# EAGLE library part DG407 (library ic)
DG407: Dual 8-channel analog multiplexer (Maxim) ±15V, 100Ω
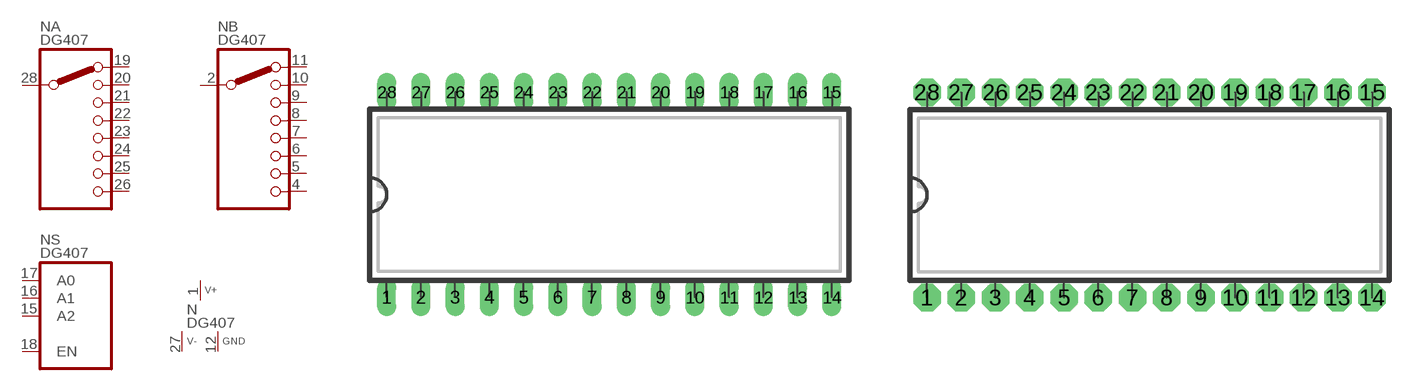
[diagram p103: symbol with the pads of DIP28WL; footprints DIP28WL, DIP28WN]

Designator prefix N; gates A=SD1X8_2 B=SD1X8_2 S=SD1X8_SEL P=V+-GND

## DG407L  [DIP28WL]
1  P:V+  pwr
2  B:S1
4  B:S2H
5  B:S2G
6  B:S2F
7  B:S2E
8  B:S2D
9  B:S2C
10  B:S2B
11  B:S2A
12  P:GND  pwr
15  S:A2  in
16  S:A1  in
17  S:A0  in
18  S:EN  in
19  A:S2A
20  A:S2B
21  A:S2C
22  A:S2D
23  A:S2E
24  A:S2F
25  A:S2G
26  A:S2H
27  P:V-  pwr
28  A:S1

## DG407N  [DIP28WN]
Pads as for DIP28WL

## DG407R  [DIP28WR]
Pads as for DIP28WL

## DG407  [DIP28WL]
Pads as for DIP28WL

## Footprint DIP28WL (pad centres in mm)
DIP-28, long pads Standard IC package, 28 pins
drill 0.813 pad 1.397 long: 1 -16.51,-7.62; 2 -13.97,-7.62; 3 -11.43,-7.62; 4 -8.89,-7.62; 5 -6.35,-7.62; 6 -3.81,-7.62; 7 -1.27,-7.62; 8 1.27,-7.62; 9 3.81,-7.62; 10 6.35,-7.62; 11 8.89,-7.62; 12 11.43,-7.62; 13 13.97,-7.62; 14 16.51,-7.62; 15 16.51,7.62; 16 13.97,7.62; 17 11.43,7.62; 18 8.89,7.62; 19 6.35,7.62; 20 3.81,7.62; 21 1.27,7.62; 22 -1.27,7.62; 23 -3.81,7.62; 24 -6.35,7.62; 25 -8.89,7.62; 26 -11.43,7.62; 27 -13.97,7.62; 28 -16.51,7.62

## Footprint DIP28WN (pad centres in mm)
DIP-28 Standard IC package, 28 pins
drill 0.813 pad 2.032 octagon: 1 -16.51,-7.62; 2 -13.97,-7.62; 3 -11.43,-7.62; 4 -8.89,-7.62; 5 -6.35,-7.62; 6 -3.81,-7.62; 7 -1.27,-7.62; 8 1.27,-7.62; 9 3.81,-7.62; 10 6.35,-7.62; 11 8.89,-7.62; 12 11.43,-7.62; 13 13.97,-7.62; 14 16.51,-7.62; 15 16.51,7.62; 16 13.97,7.62; 17 11.43,7.62; 18 8.89,7.62; 19 6.35,7.62; 20 3.81,7.62; 21 1.27,7.62; 22 -1.27,7.62; 23 -3.81,7.62; 24 -6.35,7.62; 25 -8.89,7.62; 26 -11.43,7.62; 27 -13.97,7.62; 28 -16.51,7.62

## Footprint DIP28WR (pad centres in mm)
DIP-28, reduced pads Standard IC package, 28 pins
drill 0.813 pad 1.397 square: 1 -16.51,-7.62; 2 -13.97,-7.62; 3 -11.43,-7.62; 4 -8.89,-7.62; 5 -6.35,-7.62; 6 -3.81,-7.62; 7 -1.27,-7.62; 8 1.27,-7.62; 9 3.81,-7.62; 10 6.35,-7.62; 11 8.89,-7.62; 12 11.43,-7.62; 13 13.97,-7.62; 14 16.51,-7.62; 15 16.51,7.62; 16 13.97,7.62; 17 11.43,7.62; 18 8.89,7.62; 19 6.35,7.62; 20 3.81,7.62; 21 1.27,7.62; 22 -1.27,7.62; 23 -3.81,7.62; 24 -6.35,7.62; 25 -8.89,7.62; 26 -11.43,7.62; 27 -13.97,7.62; 28 -16.51,7.62